# Altium schematic symbol library kmilo17pet-NSC_Interface.SchLib: 1433 symbols (part 27 of 51)
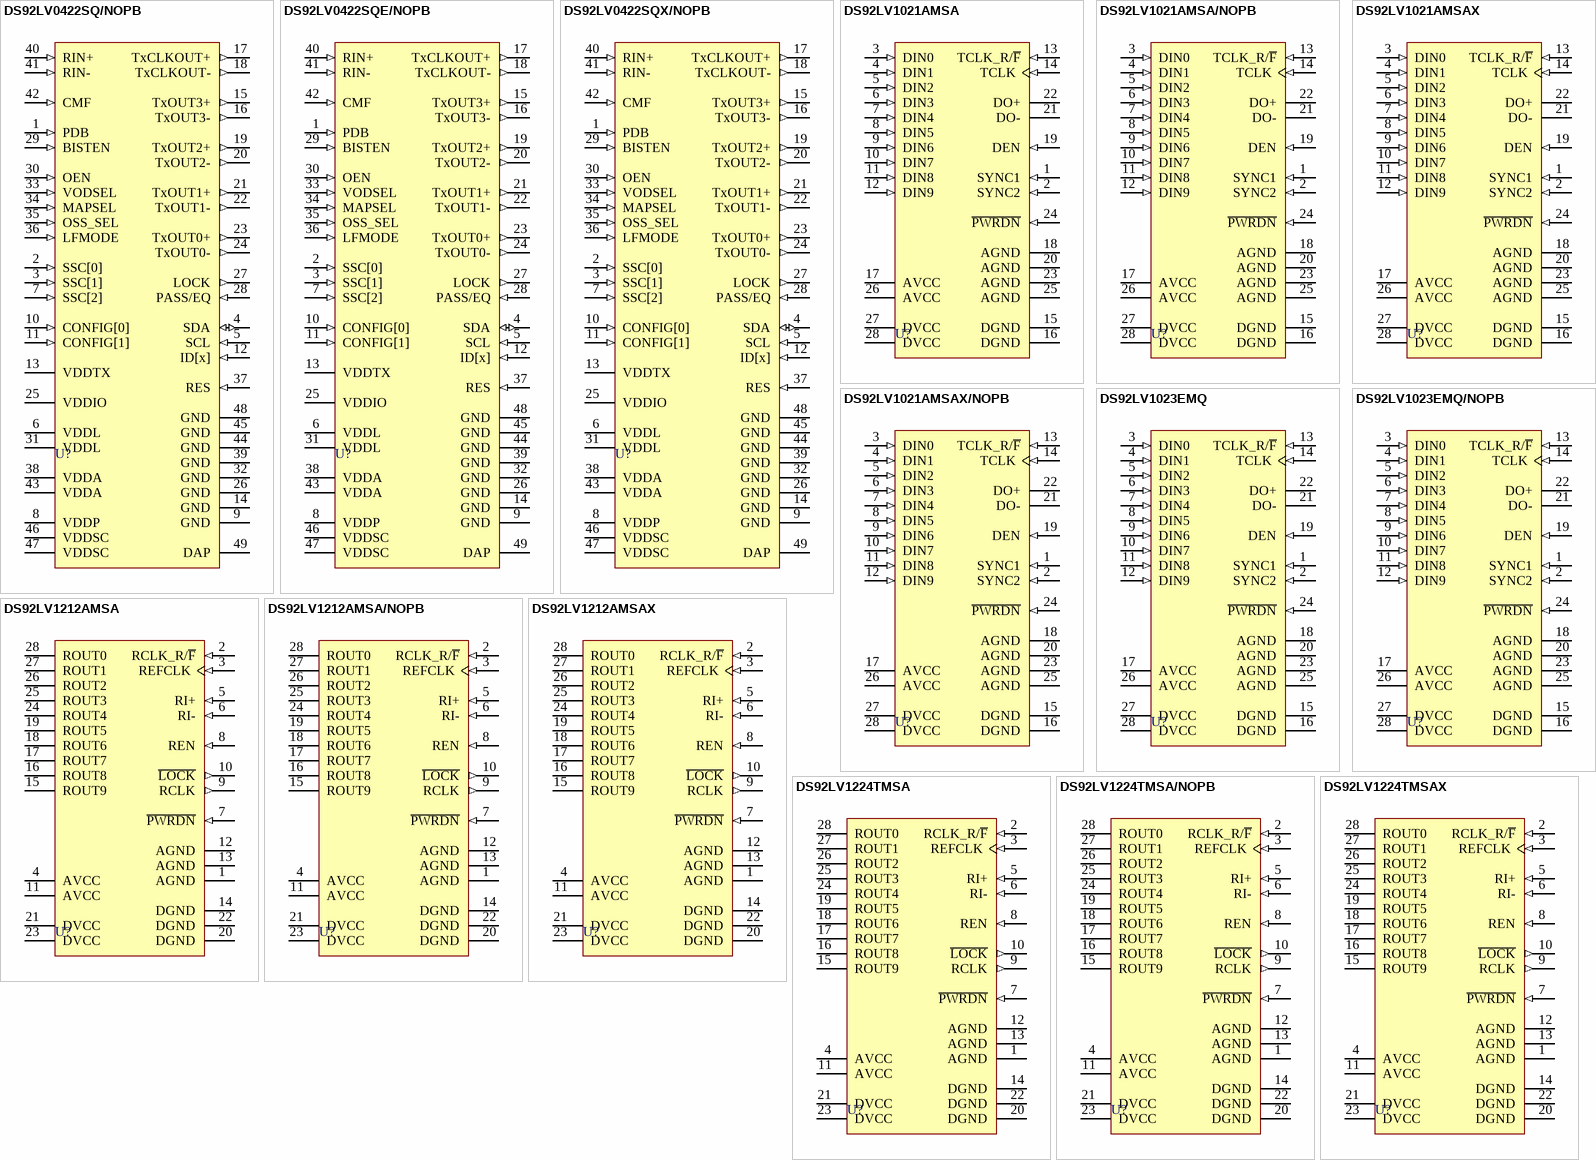
[diagram p150: symbols DS92LV0422SQ/NOPB to DS92LV1224TMSAX]

## DS92LV1021AMSA
designator U?
16 MHz - 40 MHz 10-Bit Serializer, 28-pin SSOP-EIAJ; PartNumber: DS92LV1021AMSA; Manufacturer: National Semiconductor; PackageTopMarking: NSUZXYTTE#*DS92LV1021A*MSA BBBBB; PowerWise: N; CompType: Interface IC; High-Reliability: Y; DatasheetVersion: Jan-2003; PackageVersion: revC, Oct-2009; PackageReference: MSA28; PackageDescription: Molded SSOP, 5.3mm Body Width, 0.65mm Pitch, EIAJ, Type II, 28 Lead; RoHS: N; PinCount: 28; ComponentLink1Description: Manufacturer URL; ComponentLink1URL: http://www.national.com/; ComponentLink2Description: DS92LV1021A Datasheet; ComponentLink2URL: http://www.national.com/ds/DS/DS92LV1021A.pdf; ComponentLink3Description: DS92LV1021A Web Page; ComponentLink3URL: http://www.national.com/pf/DS/DS92LV1021A.html; ComponentLink4Description: MSA28 Package Page; ComponentLink4URL: http://www.national.com/packaging/folders/msa28.html
footprint MSA28_N (SOP, 28-Leads, Body 10.2x5.3mm, Pitch 0.65mm, IPC Medium Density)
footprint MSA28_L (SOP, 28-Leads, Body 10.2x5.3mm, Pitch 0.65mm, IPC High Density)
footprint MSA28_M (SOP, 28-Leads, Body 10.2x5.3mm, Pitch 0.65mm, IPC Low Density)
pins: 1 SYNC1 (in), 2 SYNC2 (in), 3 DIN0 (in), 4 DIN1 (in), 5 DIN2 (in), 6 DIN3 (in), 7 DIN4 (in), 8 DIN5 (in), 9 DIN6 (in), 10 DIN7 (in), 11 DIN8 (in), 12 DIN9 (in), 13 TCLK_R/~{F} (in), 14 TCLK (in), 15 DGND (power), 16 DGND (power), 17 AVCC (power), 18 AGND (power), 19 DEN (in), 20 AGND (power), 21 DO- (hiz), 22 DO+ (hiz), 23 AGND (power), 24 ~{PWRDN} (in), 25 AGND (power), 26 AVCC (power), 27 DVCC (power), 28 DVCC (power)

## DS92LV1021AMSA/NOPB
designator U?
16 MHz - 40 MHz 10-Bit Serializer, 28-pin SSOP-EIAJ, Pb-Free; PartNumber: DS92LV1021AMSA/NOPB; Manufacturer: National Semiconductor; PackageTopMarking: NSUZXYTTE#*DS92LV1021A*MSA BBBBB; PowerWise: N; CompType: Interface IC; High-Reliability: Y; DatasheetVersion: Jan-2003; PackageVersion: revC, Oct-2009; PackageReference: MSA28; PackageDescription: Molded SSOP, 5.3mm Body Width, 0.65mm Pitch, EIAJ, Type II, 28 Lead; RoHS: Y; PinCount: 28; ComponentLink1Description: Manufacturer URL; ComponentLink1URL: http://www.national.com/; ComponentLink2Description: DS92LV1021A Datasheet; ComponentLink2URL: http://www.national.com/ds/DS/DS92LV1021A.pdf; ComponentLink3Description: DS92LV1021A Web Page; ComponentLink3URL: http://www.national.com/pf/DS/DS92LV1021A.html; ComponentLink4Description: MSA28 Package Page; ComponentLink4URL: http://www.national.com/packaging/folders/msa28.html
footprint MSA28_N (SOP, 28-Leads, Body 10.2x5.3mm, Pitch 0.65mm, IPC Medium Density)
footprint MSA28_L (SOP, 28-Leads, Body 10.2x5.3mm, Pitch 0.65mm, IPC High Density)
footprint MSA28_M (SOP, 28-Leads, Body 10.2x5.3mm, Pitch 0.65mm, IPC Low Density)
pins: 1 SYNC1 (in), 2 SYNC2 (in), 3 DIN0 (in), 4 DIN1 (in), 5 DIN2 (in), 6 DIN3 (in), 7 DIN4 (in), 8 DIN5 (in), 9 DIN6 (in), 10 DIN7 (in), 11 DIN8 (in), 12 DIN9 (in), 13 TCLK_R/~{F} (in), 14 TCLK (in), 15 DGND (power), 16 DGND (power), 17 AVCC (power), 18 AGND (power), 19 DEN (in), 20 AGND (power), 21 DO- (hiz), 22 DO+ (hiz), 23 AGND (power), 24 ~{PWRDN} (in), 25 AGND (power), 26 AVCC (power), 27 DVCC (power), 28 DVCC (power)

## DS92LV1021AMSAX
designator U?
16 MHz - 40 MHz 10-Bit Serializer, 28-pin SSOP-EIAJ; PartNumber: DS92LV1021AMSAX; Manufacturer: National Semiconductor; PackageTopMarking: NSUZXYTTE#*DS92LV1021A*MSA BBBBB; PowerWise: N; CompType: Interface IC; High-Reliability: Y; DatasheetVersion: Jan-2003; PackageVersion: revC, Oct-2009; PackageReference: MSA28; PackageDescription: Molded SSOP, 5.3mm Body Width, 0.65mm Pitch, EIAJ, Type II, 28 Lead; RoHS: N; PinCount: 28; ComponentLink1Description: Manufacturer URL; ComponentLink1URL: http://www.national.com/; ComponentLink2Description: DS92LV1021A Datasheet; ComponentLink2URL: http://www.national.com/ds/DS/DS92LV1021A.pdf; ComponentLink3Description: DS92LV1021A Web Page; ComponentLink3URL: http://www.national.com/pf/DS/DS92LV1021A.html; ComponentLink4Description: MSA28 Package Page; ComponentLink4URL: http://www.national.com/packaging/folders/msa28.html
footprint MSA28_N (SOP, 28-Leads, Body 10.2x5.3mm, Pitch 0.65mm, IPC Medium Density)
footprint MSA28_L (SOP, 28-Leads, Body 10.2x5.3mm, Pitch 0.65mm, IPC High Density)
footprint MSA28_M (SOP, 28-Leads, Body 10.2x5.3mm, Pitch 0.65mm, IPC Low Density)
pins: 1 SYNC1 (in), 2 SYNC2 (in), 3 DIN0 (in), 4 DIN1 (in), 5 DIN2 (in), 6 DIN3 (in), 7 DIN4 (in), 8 DIN5 (in), 9 DIN6 (in), 10 DIN7 (in), 11 DIN8 (in), 12 DIN9 (in), 13 TCLK_R/~{F} (in), 14 TCLK (in), 15 DGND (power), 16 DGND (power), 17 AVCC (power), 18 AGND (power), 19 DEN (in), 20 AGND (power), 21 DO- (hiz), 22 DO+ (hiz), 23 AGND (power), 24 ~{PWRDN} (in), 25 AGND (power), 26 AVCC (power), 27 DVCC (power), 28 DVCC (power)

## DS92LV1021AMSAX/NOPB
designator U?
16 MHz - 40 MHz 10-Bit Serializer, 28-pin SSOP-EIAJ, Pb-Free; PartNumber: DS92LV1021AMSAX/NOPB; Manufacturer: National Semiconductor; PackageTopMarking: NSUZXYTTE#*DS92LV1021A*MSA BBBBB; PowerWise: N; CompType: Interface IC; High-Reliability: Y; DatasheetVersion: Jan-2003; PackageVersion: revC, Oct-2009; PackageReference: MSA28; PackageDescription: Molded SSOP, 5.3mm Body Width, 0.65mm Pitch, EIAJ, Type II, 28 Lead; RoHS: Y; PinCount: 28; ComponentLink1Description: Manufacturer URL; ComponentLink1URL: http://www.national.com/; ComponentLink2Description: DS92LV1021A Datasheet; ComponentLink2URL: http://www.national.com/ds/DS/DS92LV1021A.pdf; ComponentLink3Description: DS92LV1021A Web Page; ComponentLink3URL: http://www.national.com/pf/DS/DS92LV1021A.html; ComponentLink4Description: MSA28 Package Page; ComponentLink4URL: http://www.national.com/packaging/folders/msa28.html
footprint MSA28_N (SOP, 28-Leads, Body 10.2x5.3mm, Pitch 0.65mm, IPC Medium Density)
footprint MSA28_L (SOP, 28-Leads, Body 10.2x5.3mm, Pitch 0.65mm, IPC High Density)
footprint MSA28_M (SOP, 28-Leads, Body 10.2x5.3mm, Pitch 0.65mm, IPC Low Density)
pins: 1 SYNC1 (in), 2 SYNC2 (in), 3 DIN0 (in), 4 DIN1 (in), 5 DIN2 (in), 6 DIN3 (in), 7 DIN4 (in), 8 DIN5 (in), 9 DIN6 (in), 10 DIN7 (in), 11 DIN8 (in), 12 DIN9 (in), 13 TCLK_R/~{F} (in), 14 TCLK (in), 15 DGND (power), 16 DGND (power), 17 AVCC (power), 18 AGND (power), 19 DEN (in), 20 AGND (power), 21 DO- (hiz), 22 DO+ (hiz), 23 AGND (power), 24 ~{PWRDN} (in), 25 AGND (power), 26 AVCC (power), 27 DVCC (power), 28 DVCC (power)

## DS92LV1023EMQ
designator U?
30-66 MHz 10-Bit Serializer, 28-pin SSOP-EIAJ; PartNumber: DS92LV1023EMQ; Manufacturer: National Semiconductor; PackageTopMarking: NSUZXYTTE#*DS92LV1023*EMQ; PowerWise: N; CompType: Interface IC; High-Reliability: Y; DatasheetVersion: Apr-2005; PackageVersion: revC, Oct-2009; PackageReference: MSA28; PackageDescription: Molded SSOP, 5.3mm Body Width, 0.65mm Pitch, EIAJ, Type II, 28 Lead; RoHS: N; PinCount: 28; ComponentLink1Description: Manufacturer URL; ComponentLink1URL: http://www.national.com/; ComponentLink2Description: DS92LV1023E Datasheet; ComponentLink2URL: http://www.national.com/ds/DS/DS92LV1023E.pdf; ComponentLink3Description: DS92LV1023E Web Page; ComponentLink3URL: http://www.national.com/pf/DS/DS92LV1023E.html; ComponentLink4Description: MSA28 Package Page; ComponentLink4URL: http://www.national.com/packaging/folders/msa28.html
footprint MSA28_N (SOP, 28-Leads, Body 10.2x5.3mm, Pitch 0.65mm, IPC Medium Density)
footprint MSA28_L (SOP, 28-Leads, Body 10.2x5.3mm, Pitch 0.65mm, IPC High Density)
footprint MSA28_M (SOP, 28-Leads, Body 10.2x5.3mm, Pitch 0.65mm, IPC Low Density)
pins: 1 SYNC1 (in), 2 SYNC2 (in), 3 DIN0 (in), 4 DIN1 (in), 5 DIN2 (in), 6 DIN3 (in), 7 DIN4 (in), 8 DIN5 (in), 9 DIN6 (in), 10 DIN7 (in), 11 DIN8 (in), 12 DIN9 (in), 13 TCLK_R/~{F} (in), 14 TCLK (in), 15 DGND (power), 16 DGND (power), 17 AVCC (power), 18 AGND (power), 19 DEN (in), 20 AGND (power), 21 DO- (hiz), 22 DO+ (hiz), 23 AGND (power), 24 ~{PWRDN} (in), 25 AGND (power), 26 AVCC (power), 27 DVCC (power), 28 DVCC (power)

## DS92LV1023EMQ/NOPB
designator U?
30-66 MHz 10-Bit Serializer, 28-pin SSOP-EIAJ, Pb-Free; PartNumber: DS92LV1023EMQ/NOPB; Manufacturer: National Semiconductor; PackageTopMarking: NSUZXYTTE#*DS92LV1023*EMQ; PowerWise: N; CompType: Interface IC; High-Reliability: Y; DatasheetVersion: Apr-2005; PackageVersion: revC, Oct-2009; PackageReference: MSA28; PackageDescription: Molded SSOP, 5.3mm Body Width, 0.65mm Pitch, EIAJ, Type II, 28 Lead; RoHS: Y; PinCount: 28; ComponentLink1Description: Manufacturer URL; ComponentLink1URL: http://www.national.com/; ComponentLink2Description: DS92LV1023E Datasheet; ComponentLink2URL: http://www.national.com/ds/DS/DS92LV1023E.pdf; ComponentLink3Description: DS92LV1023E Web Page; ComponentLink3URL: http://www.national.com/pf/DS/DS92LV1023E.html; ComponentLink4Description: MSA28 Package Page; ComponentLink4URL: http://www.national.com/packaging/folders/msa28.html
footprint MSA28_N (SOP, 28-Leads, Body 10.2x5.3mm, Pitch 0.65mm, IPC Medium Density)
footprint MSA28_L (SOP, 28-Leads, Body 10.2x5.3mm, Pitch 0.65mm, IPC High Density)
footprint MSA28_M (SOP, 28-Leads, Body 10.2x5.3mm, Pitch 0.65mm, IPC Low Density)
pins: 1 SYNC1 (in), 2 SYNC2 (in), 3 DIN0 (in), 4 DIN1 (in), 5 DIN2 (in), 6 DIN3 (in), 7 DIN4 (in), 8 DIN5 (in), 9 DIN6 (in), 10 DIN7 (in), 11 DIN8 (in), 12 DIN9 (in), 13 TCLK_R/~{F} (in), 14 TCLK (in), 15 DGND (power), 16 DGND (power), 17 AVCC (power), 18 AGND (power), 19 DEN (in), 20 AGND (power), 21 DO- (hiz), 22 DO+ (hiz), 23 AGND (power), 24 ~{PWRDN} (in), 25 AGND (power), 26 AVCC (power), 27 DVCC (power), 28 DVCC (power)

## DS92LV1212AMSA
designator U?
16 MHz - 40 MHz 10-Bit Bus LVDS Random Lock Deserializer with Embedded Clock Recovery, 28-pin SSOP-EIAJ; PartNumber: DS92LV1212AMSA; Manufacturer: National Semiconductor; PackageTopMarking: NSUZXYTTE#*DS92LV1212A*MSA; PowerWise: N; CompType: Interface IC; High-Reliability: Y; DatasheetVersion: Nov-2000; PackageVersion: revC, Oct-2009; PackageReference: MSA28; PackageDescription: Molded SSOP, 5.3mm Body Width, 0.65mm Pitch, EIAJ, Type II, 28 Lead; RoHS: N; PinCount: 28; ComponentLink1Description: Manufacturer URL; ComponentLink1URL: http://www.national.com/; ComponentLink2Description: DS92LV1212A Datasheet; ComponentLink2URL: http://www.national.com/ds/DS/DS92LV1212A.pdf; ComponentLink3Description: DS92LV1212A Web Page; ComponentLink3URL: http://www.national.com/pf/DS/DS92LV1212A.html; ComponentLink4Description: MSA28 Package Page; ComponentLink4URL: http://www.national.com/packaging/folders/msa28.html
footprint MSA28_N (SOP, 28-Leads, Body 10.2x5.3mm, Pitch 0.65mm, IPC Medium Density)
footprint MSA28_L (SOP, 28-Leads, Body 10.2x5.3mm, Pitch 0.65mm, IPC High Density)
footprint MSA28_M (SOP, 28-Leads, Body 10.2x5.3mm, Pitch 0.65mm, IPC Low Density)
pins: 1 AGND (power), 2 RCLK_R/~{F} (in), 3 REFCLK (in), 4 AVCC (power), 5 RI+ (in), 6 RI- (in), 7 ~{PWRDN} (in), 8 REN (in), 9 RCLK (out), 10 ~{LOCK} (out), 11 AVCC (power), 12 AGND (power), 13 AGND (power), 14 DGND (power), 15 ROUT9 (hiz), 16 ROUT8 (hiz), 17 ROUT7 (hiz), 18 ROUT6 (hiz), 19 ROUT5 (hiz), 20 DGND (power), 21 DVCC (power), 22 DGND (power), 23 DVCC (power), 24 ROUT4 (hiz), 25 ROUT3 (hiz), 26 ROUT2 (hiz), 27 ROUT1 (hiz), 28 ROUT0 (hiz)

## DS92LV1212AMSA/NOPB
designator U?
16 MHz - 40 MHz 10-Bit Bus LVDS Random Lock Deserializer with Embedded Clock Recovery, 28-pin SSOP-EIAJ, Pb-Free; PartNumber: DS92LV1212AMSA/NOPB; Manufacturer: National Semiconductor; PackageTopMarking: NSUZXYTTE#*DS92LV1212A*MSA; PowerWise: N; CompType: Interface IC; High-Reliability: Y; DatasheetVersion: Nov-2000; PackageVersion: revC, Oct-2009; PackageReference: MSA28; PackageDescription: Molded SSOP, 5.3mm Body Width, 0.65mm Pitch, EIAJ, Type II, 28 Lead; RoHS: Y; PinCount: 28; ComponentLink1Description: Manufacturer URL; ComponentLink1URL: http://www.national.com/; ComponentLink2Description: DS92LV1212A Datasheet; ComponentLink2URL: http://www.national.com/ds/DS/DS92LV1212A.pdf; ComponentLink3Description: DS92LV1212A Web Page; ComponentLink3URL: http://www.national.com/pf/DS/DS92LV1212A.html; ComponentLink4Description: MSA28 Package Page; ComponentLink4URL: http://www.national.com/packaging/folders/msa28.html
footprint MSA28_N (SOP, 28-Leads, Body 10.2x5.3mm, Pitch 0.65mm, IPC Medium Density)
footprint MSA28_L (SOP, 28-Leads, Body 10.2x5.3mm, Pitch 0.65mm, IPC High Density)
footprint MSA28_M (SOP, 28-Leads, Body 10.2x5.3mm, Pitch 0.65mm, IPC Low Density)
pins: 1 AGND (power), 2 RCLK_R/~{F} (in), 3 REFCLK (in), 4 AVCC (power), 5 RI+ (in), 6 RI- (in), 7 ~{PWRDN} (in), 8 REN (in), 9 RCLK (out), 10 ~{LOCK} (out), 11 AVCC (power), 12 AGND (power), 13 AGND (power), 14 DGND (power), 15 ROUT9 (hiz), 16 ROUT8 (hiz), 17 ROUT7 (hiz), 18 ROUT6 (hiz), 19 ROUT5 (hiz), 20 DGND (power), 21 DVCC (power), 22 DGND (power), 23 DVCC (power), 24 ROUT4 (hiz), 25 ROUT3 (hiz), 26 ROUT2 (hiz), 27 ROUT1 (hiz), 28 ROUT0 (hiz)

## DS92LV1212AMSAX
designator U?
16 MHz - 40 MHz 10-Bit Bus LVDS Random Lock Deserializer with Embedded Clock Recovery, 28-pin SSOP-EIAJ; PartNumber: DS92LV1212AMSAX; Manufacturer: National Semiconductor; PackageTopMarking: NSUZXYTTE#*DS92LV1212A*MSA; PowerWise: N; CompType: Interface IC; High-Reliability: Y; DatasheetVersion: Nov-2000; PackageVersion: revC, Oct-2009; PackageReference: MSA28; PackageDescription: Molded SSOP, 5.3mm Body Width, 0.65mm Pitch, EIAJ, Type II, 28 Lead; RoHS: N; PinCount: 28; ComponentLink1Description: Manufacturer URL; ComponentLink1URL: http://www.national.com/; ComponentLink2Description: DS92LV1212A Datasheet; ComponentLink2URL: http://www.national.com/ds/DS/DS92LV1212A.pdf; ComponentLink3Description: DS92LV1212A Web Page; ComponentLink3URL: http://www.national.com/pf/DS/DS92LV1212A.html; ComponentLink4Description: MSA28 Package Page; ComponentLink4URL: http://www.national.com/packaging/folders/msa28.html
footprint MSA28_N (SOP, 28-Leads, Body 10.2x5.3mm, Pitch 0.65mm, IPC Medium Density)
footprint MSA28_L (SOP, 28-Leads, Body 10.2x5.3mm, Pitch 0.65mm, IPC High Density)
footprint MSA28_M (SOP, 28-Leads, Body 10.2x5.3mm, Pitch 0.65mm, IPC Low Density)
pins: 1 AGND (power), 2 RCLK_R/~{F} (in), 3 REFCLK (in), 4 AVCC (power), 5 RI+ (in), 6 RI- (in), 7 ~{PWRDN} (in), 8 REN (in), 9 RCLK (out), 10 ~{LOCK} (out), 11 AVCC (power), 12 AGND (power), 13 AGND (power), 14 DGND (power), 15 ROUT9 (hiz), 16 ROUT8 (hiz), 17 ROUT7 (hiz), 18 ROUT6 (hiz), 19 ROUT5 (hiz), 20 DGND (power), 21 DVCC (power), 22 DGND (power), 23 DVCC (power), 24 ROUT4 (hiz), 25 ROUT3 (hiz), 26 ROUT2 (hiz), 27 ROUT1 (hiz), 28 ROUT0 (hiz)

## DS92LV1224TMSA
designator U?
30-66 MHz 10-Bit Deserializer, 28-pin SSOP-EIAJ; PartNumber: DS92LV1224TMSA; Manufacturer: National Semiconductor; PackageTopMarking: NSUZXYTTE#*DS92LV1224T*MSA; PowerWise: N; CompType: Interface IC; High-Reliability: Y; DatasheetVersion: Apr-2005; PackageVersion: revC, Oct-2009; PackageReference: MSA28; PackageDescription: Molded SSOP, 5.3mm Body Width, 0.65mm Pitch, EIAJ, Type II, 28 Lead; RoHS: N; PinCount: 28; ComponentLink1Description: Manufacturer URL; ComponentLink1URL: http://www.national.com/; ComponentLink2Description: DS92LV1224 Datasheet; ComponentLink2URL: http://www.national.com/ds/DS/DS92LV1224.pdf; ComponentLink3Description: DS92LV1224 Web Page; ComponentLink3URL: http://www.national.com/pf/DS/DS92LV1224.html; ComponentLink4Description: MSA28 Package Page; ComponentLink4URL: http://www.national.com/packaging/folders/msa28.html
footprint MSA28_N (SOP, 28-Leads, Body 10.2x5.3mm, Pitch 0.65mm, IPC Medium Density)
footprint MSA28_L (SOP, 28-Leads, Body 10.2x5.3mm, Pitch 0.65mm, IPC High Density)
footprint MSA28_M (SOP, 28-Leads, Body 10.2x5.3mm, Pitch 0.65mm, IPC Low Density)
pins: 1 AGND (power), 2 RCLK_R/~{F} (in), 3 REFCLK (in), 4 AVCC (power), 5 RI+ (in), 6 RI- (in), 7 ~{PWRDN} (in), 8 REN (in), 9 RCLK (out), 10 ~{LOCK} (out), 11 AVCC (power), 12 AGND (power), 13 AGND (power), 14 DGND (power), 15 ROUT9 (hiz), 16 ROUT8 (hiz), 17 ROUT7 (hiz), 18 ROUT6 (hiz), 19 ROUT5 (hiz), 20 DGND (power), 21 DVCC (power), 22 DGND (power), 23 DVCC (power), 24 ROUT4 (hiz), 25 ROUT3 (hiz), 26 ROUT2 (hiz), 27 ROUT1 (hiz), 28 ROUT0 (hiz)

## DS92LV1224TMSA/NOPB
designator U?
30-66 MHz 10-Bit Deserializer, 28-pin SSOP-EIAJ, Pb-Free; PartNumber: DS92LV1224TMSA/NOPB; Manufacturer: National Semiconductor; PackageTopMarking: NSUZXYTTE#*DS92LV1224T*MSA; PowerWise: N; CompType: Interface IC; High-Reliability: Y; DatasheetVersion: Apr-2005; PackageVersion: revC, Oct-2009; PackageReference: MSA28; PackageDescription: Molded SSOP, 5.3mm Body Width, 0.65mm Pitch, EIAJ, Type II, 28 Lead; RoHS: Y; PinCount: 28; ComponentLink1Description: Manufacturer URL; ComponentLink1URL: http://www.national.com/; ComponentLink2Description: DS92LV1224 Datasheet; ComponentLink2URL: http://www.national.com/ds/DS/DS92LV1224.pdf; ComponentLink3Description: DS92LV1224 Web Page; ComponentLink3URL: http://www.national.com/pf/DS/DS92LV1224.html; ComponentLink4Description: MSA28 Package Page; ComponentLink4URL: http://www.national.com/packaging/folders/msa28.html
footprint MSA28_N (SOP, 28-Leads, Body 10.2x5.3mm, Pitch 0.65mm, IPC Medium Density)
footprint MSA28_L (SOP, 28-Leads, Body 10.2x5.3mm, Pitch 0.65mm, IPC High Density)
footprint MSA28_M (SOP, 28-Leads, Body 10.2x5.3mm, Pitch 0.65mm, IPC Low Density)
pins: 1 AGND (power), 2 RCLK_R/~{F} (in), 3 REFCLK (in), 4 AVCC (power), 5 RI+ (in), 6 RI- (in), 7 ~{PWRDN} (in), 8 REN (in), 9 RCLK (out), 10 ~{LOCK} (out), 11 AVCC (power), 12 AGND (power), 13 AGND (power), 14 DGND (power), 15 ROUT9 (hiz), 16 ROUT8 (hiz), 17 ROUT7 (hiz), 18 ROUT6 (hiz), 19 ROUT5 (hiz), 20 DGND (power), 21 DVCC (power), 22 DGND (power), 23 DVCC (power), 24 ROUT4 (hiz), 25 ROUT3 (hiz), 26 ROUT2 (hiz), 27 ROUT1 (hiz), 28 ROUT0 (hiz)

## DS92LV1224TMSAX
designator U?
30-66 MHz 10-Bit Deserializer, 28-pin SSOP-EIAJ; PartNumber: DS92LV1224TMSAX; Manufacturer: National Semiconductor; PackageTopMarking: NSUZXYTTE#*DS92LV1224T*MSA; PowerWise: N; CompType: Interface IC; High-Reliability: Y; DatasheetVersion: Apr-2005; PackageVersion: revC, Oct-2009; PackageReference: MSA28; PackageDescription: Molded SSOP, 5.3mm Body Width, 0.65mm Pitch, EIAJ, Type II, 28 Lead; RoHS: N; PinCount: 28; ComponentLink1Description: Manufacturer URL; ComponentLink1URL: http://www.national.com/; ComponentLink2Description: DS92LV1224 Datasheet; ComponentLink2URL: http://www.national.com/ds/DS/DS92LV1224.pdf; ComponentLink3Description: DS92LV1224 Web Page; ComponentLink3URL: http://www.national.com/pf/DS/DS92LV1224.html; ComponentLink4Description: MSA28 Package Page; ComponentLink4URL: http://www.national.com/packaging/folders/msa28.html
footprint MSA28_N (SOP, 28-Leads, Body 10.2x5.3mm, Pitch 0.65mm, IPC Medium Density)
footprint MSA28_L (SOP, 28-Leads, Body 10.2x5.3mm, Pitch 0.65mm, IPC High Density)
footprint MSA28_M (SOP, 28-Leads, Body 10.2x5.3mm, Pitch 0.65mm, IPC Low Density)
pins: 1 AGND (power), 2 RCLK_R/~{F} (in), 3 REFCLK (in), 4 AVCC (power), 5 RI+ (in), 6 RI- (in), 7 ~{PWRDN} (in), 8 REN (in), 9 RCLK (out), 10 ~{LOCK} (out), 11 AVCC (power), 12 AGND (power), 13 AGND (power), 14 DGND (power), 15 ROUT9 (hiz), 16 ROUT8 (hiz), 17 ROUT7 (hiz), 18 ROUT6 (hiz), 19 ROUT5 (hiz), 20 DGND (power), 21 DVCC (power), 22 DGND (power), 23 DVCC (power), 24 ROUT4 (hiz), 25 ROUT3 (hiz), 26 ROUT2 (hiz), 27 ROUT1 (hiz), 28 ROUT0 (hiz)

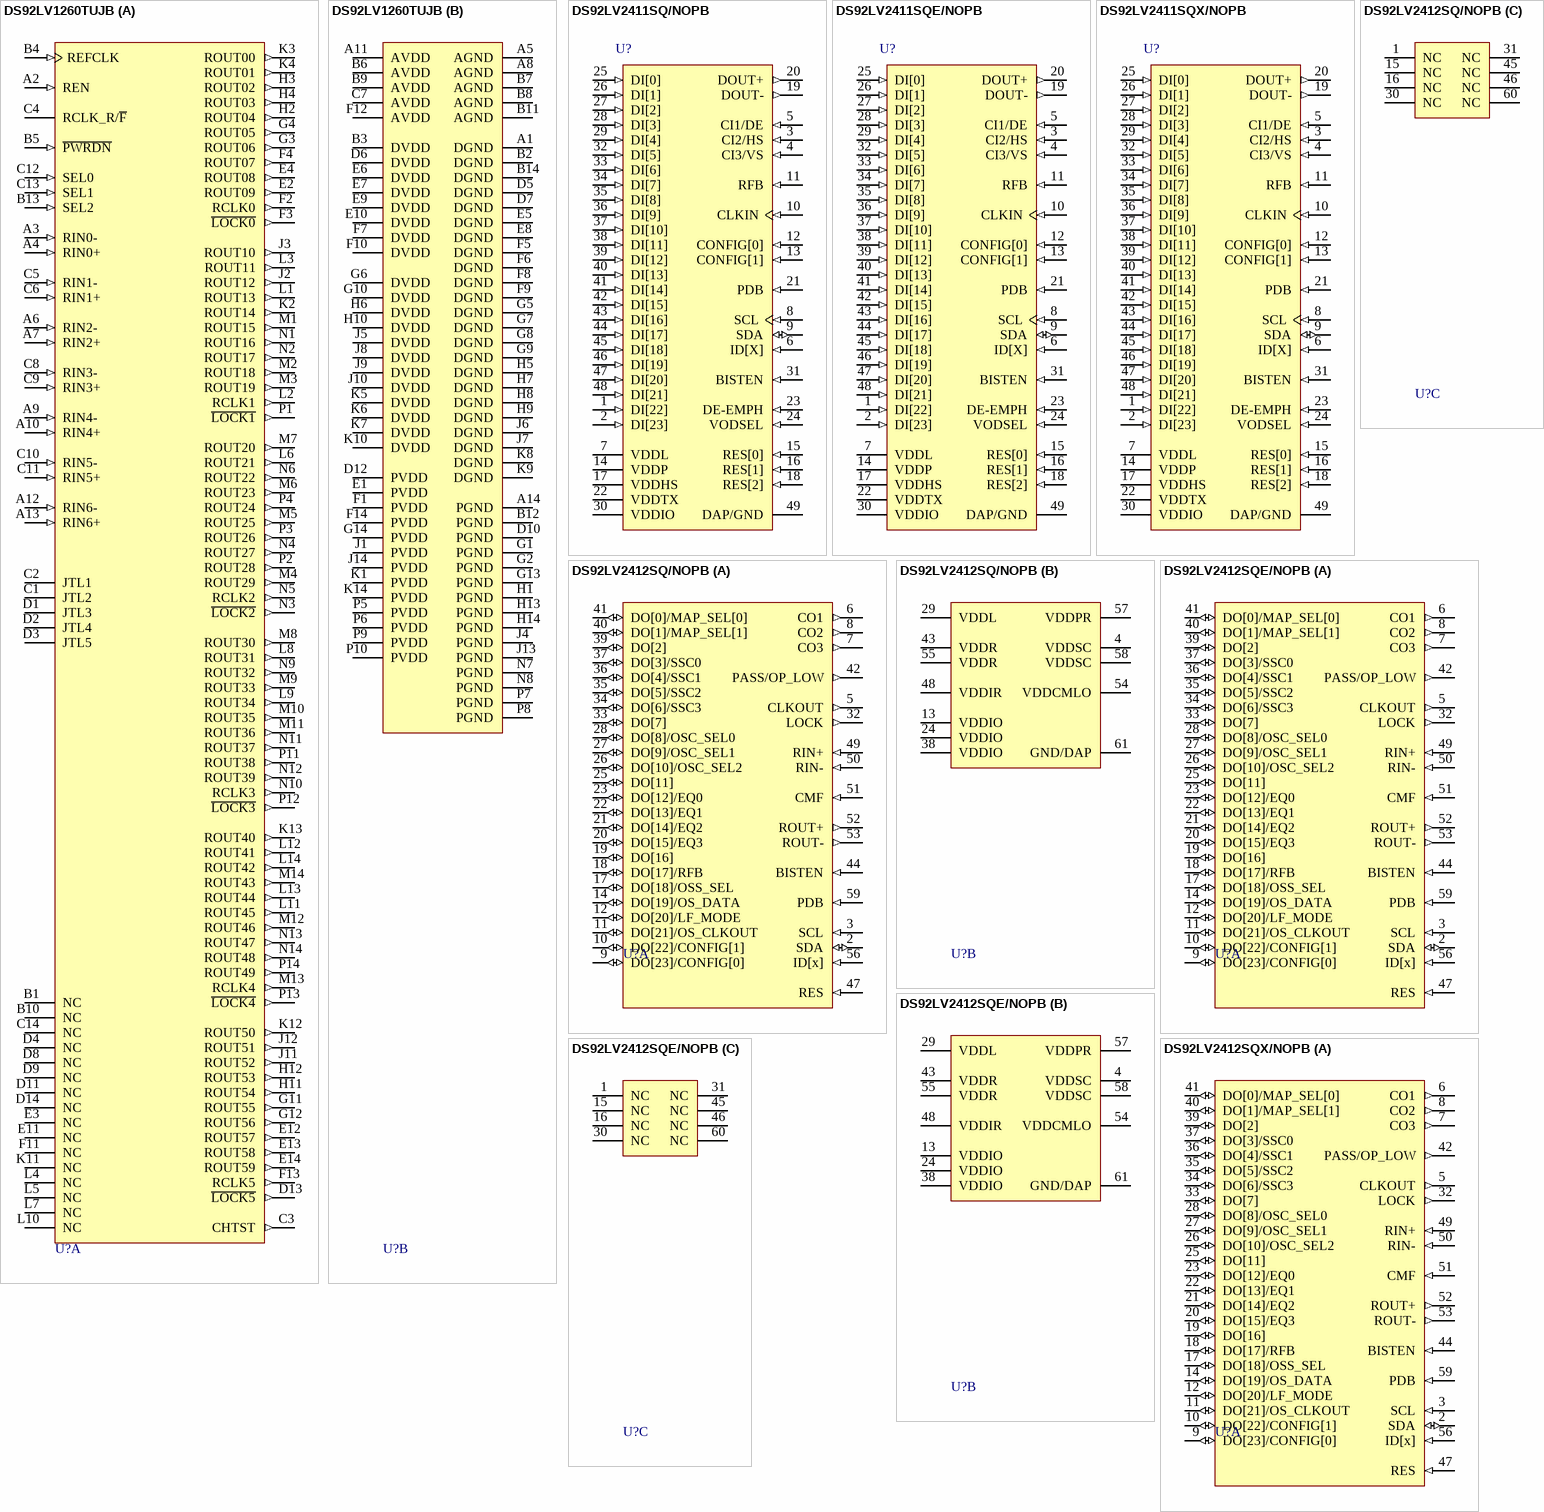
[diagram p71: symbols DS92LV1260TUJB to DS92LV2412SQX/NOPB]

## DS92LV1260TUJB
designator U?
Six 1 to 10 deserializers, 196-pin LBGA; PartNumber: DS92LV1260TUJB; Manufacturer: National Semiconductor; PackageTopMarking: NSUZXYYTTE#*DS92LV1260T*UJB*BBBBB; PowerWise: N; CompType: Interface IC; High-Reliability: Y; DatasheetVersion: Aug-2003; PackageVersion: revC, Jul-2005; PackageReference: UJB196A; PackageDescription: LBGA, 15 x 15 x 1.37mm, 196 Ball, 1.0mm Pitch; RoHS: N; PinCount: 196; Code_JEDEC: MO-192-AAE-1; ComponentLink1Description: Manufacturer URL; ComponentLink1URL: http://www.national.com/; ComponentLink2Description: DS92LV1260 Datasheet; ComponentLink2URL: http://www.national.com/ds/DS/DS92LV1260.pdf; ComponentLink3Description: DS92LV1260 Web Page; ComponentLink3URL: http://www.national.com/pf/DS/DS92LV1260.html; ComponentLink4Description: UJB196A Package Page; ComponentLink4URL: http://www.national.com/packaging/folders/ujb196a.html
footprint UJB196A (BGA, 196-Leads, Body 15x15mm, Pitch 1mm)
part A pins: A2 REN (in), A3 RIN0- (in), A4 RIN0+ (in), A6 RIN2- (in), A7 RIN2+ (in), A9 RIN4- (in), A10 RIN4+ (in), A12 RIN6- (in), A13 RIN6+ (in), B1 NC, B4 REFCLK (in), B5 ~{PWRDN} (in), B10 NC, B13 SEL2 (in), C1 JTL2, C2 JTL1, C3 CHTST (out), C4 RCLK_R/~{F} (power), C5 RIN1- (in), C6 RIN1+ (in), C8 RIN3- (in), C9 RIN3+ (in), C10 RIN5- (in), C11 RIN5+ (in), C12 SEL0 (in), C13 SEL1 (in), C14 NC, D1 JTL3, D2 JTL4, D3 JTL5, D4 NC, D8 NC, D9 NC, D11 NC, D13 ~{LOCK5} (out), D14 NC, E2 ROUT09 (out), E3 NC, E4 ROUT08 (out), E11 NC, E12 ROUT57 (out), E13 ROUT58 (out), E14 ROUT59 (out), F2 RCLK0 (out), F3 ~{LOCK0} (out), F4 ROUT07 (out), F11 NC, F13 RCLK5 (out), G3 ROUT06 (out), G4 ROUT05 (out), G11 ROUT55 (out), G12 ROUT56 (out), H2 ROUT04 (out), H3 ROUT02 (out), H4 ROUT03 (out), H11 ROUT54 (out), H12 ROUT53 (out), J2 ROUT12 (out), J3 ROUT10 (out), J11 ROUT52 (out), J12 ROUT51 (out), K2 ROUT14 (out), K3 ROUT00 (out), K4 ROUT01 (out), K11 NC, K12 ROUT50 (out), K13 ROUT40 (out), L1 ROUT13 (out), L2 RCLK1 (out), L3 ROUT11 (out), L4 NC, L5 NC, L6 ROUT21 (out), L7 NC, L8 ROUT31 (out), L9 ROUT34 (out), L10 NC, L11 ROUT45 (out), L12 ROUT41 (out), L13 ROUT44 (out), L14 ROUT42 (out), M1 ROUT15 (out), M2 ROUT18 (out), M3 ROUT19 (out), M4 ROUT29 (out), M5 ROUT25 (out), M6 ROUT23 (out), M7 ROUT20 (out), M8 ROUT30 (out), M9 ROUT33 (out), M10 ROUT35 (out), M11 ROUT36 (out), M12 ROUT46 (out), M13 RCLK4 (out), M14 ROUT43 (out), N1 ROUT16 (out), N2 ROUT17 (out), N3 ~{LOCK2} (out), N4 ROUT27 (out), N5 RCLK2 (out), N6 ROUT22 (out), N9 ROUT32 (out), N10 RCLK3 (out), N11 ROUT37 (out), N12 ROUT39 (out), N13 ROUT47 (out), N14 ROUT48 (out), P1 ~{LOCK1} (out), P2 ROUT28 (out), P3 ROUT26 (out), P4 ROUT24 (out), P11 ROUT38 (out), P12 ~{LOCK3} (out), P13 ~{LOCK4} (out), P14 ROUT49 (out)
part B pins: A1 DGND (power), A5 AGND (power), A8 AGND (power), A11 AVDD (power), A14 PGND (power), B2 DGND (power), B3 DVDD (power), B6 AVDD (power), B7 AGND (power), B8 AGND (power), B9 AVDD (power), B11 AGND (power), B12 PGND (power), B14 DGND (power), C7 AVDD (power), D5 DGND (power), D6 DVDD (power), D7 DGND (power), D10 PGND (power), D12 PVDD (power), E1 PVDD (power), E5 DGND (power), E6 DVDD (power), E7 DVDD (power), E8 DGND (power), E9 DVDD (power), E10 DVDD (power), F1 PVDD (power), F5 DGND (power), F6 DGND (power), F7 DVDD (power), F8 DGND (power), F9 DGND (power), F10 DVDD (power), F12 AVDD (power), F14 PVDD (power), G1 PGND (power), G2 PGND (power), G5 DGND (power), G6 DVDD (power), G7 DGND (power), G8 DGND (power), G9 DGND (power), G10 DVDD (power), G13 PGND (power), G14 PVDD (power), H1 PGND (power), H5 DGND (power), H6 DVDD (power), H7 DGND (power), H8 DGND (power), H9 DGND (power), H10 DVDD (power), H13 PGND (power), H14 PGND (power), J1 PVDD (power), J4 PGND (power), J5 DVDD (power), J6 DGND (power), J7 DGND (power), J8 DVDD (power), J9 DVDD (power), J10 DVDD (power), J13 PGND (power), J14 PVDD (power), K1 PVDD (power), K5 DVDD (power), K6 DVDD (power), K7 DVDD (power), K8 DGND (power), K9 DGND (power), K10 DVDD (power), K14 PVDD (power), N7 PGND (power), N8 PGND (power), P5 PVDD (power), P6 PVDD (power), P7 PGND (power), P8 PGND (power), P9 PVDD (power), P10 PVDD (power)

## DS92LV2411SQ/NOPB
designator U?
5-50MHz 24-Bit Channel Link II Serializer, 48 pin LLP; PartNumber: DS92LV2411SQ/NOPB; Manufacturer: National Semiconductor; PackageTopMarking: NS*UZXYTTE#*LV2411SQ; PowerWise: N; CompType: Interface IC; High-Reliability: Y; DatasheetVersion: May-2010; PackageVersion: revB, May-2009; PackageReference: SQA48A; PackageDescription: LLP, Plastic, Quad, 7 x 7 x 0.8mm Body, 48 Lead, 0.5mm Pitch, No Pullback; RoHS: Y; PinCount: 48; Code_JEDEC: MO-220-WKKD-2; ComponentLink1Description: Manufacturer URL; ComponentLink1URL: http://www.national.com/; ComponentLink2Description: DS92LV2411 Datasheet; ComponentLink2URL: http://www.national.com/ds/DS/DS92LV2411.pdf; ComponentLink3Description: DS92LV2411 Web Page; ComponentLink3URL: http://www.national.com/pf/DS/DS92LV2411.html; ComponentLink4Description: SQA48A Package Page; ComponentLink4URL: http://www.national.com/packaging/folders/sqa48a.html
footprint SQA48A (QFN, 48-Leads, Body 7x7mm, Pitch 0.5mm, Thermal Pad 5.2x5.2mm, NSC Recommended)
pins: 1 DI[22] (in), 2 DI[23] (in), 3 CI2/HS (in), 4 CI3/VS (in), 5 CI1/DE (in), 6 ID[X] (in), 7 VDDL (power), 8 SCL (in), 9 SDA (io), 10 CLKIN (in), 11 RFB (in), 12 CONFIG[0] (in), 13 CONFIG[1] (in), 14 VDDP (power), 15 RES[0] (in), 16 RES[1] (in), 17 VDDHS (power), 18 RES[2] (in), 19 DOUT- (out), 20 DOUT+ (out), 21 PDB (in), 22 VDDTX (power), 23 DE-EMPH (in), 24 VODSEL (in), 25 DI[0] (in), 26 DI[1] (in), 27 DI[2] (in), 28 DI[3] (in), 29 DI[4] (in), 30 VDDIO (power), 31 BISTEN (in), 32 DI[5] (in), 33 DI[6] (in), 34 DI[7] (in), 35 DI[8] (in), 36 DI[9] (in), 37 DI[10] (in), 38 DI[11] (in), 39 DI[12] (in), 40 DI[13] (in), 41 DI[14] (in), 42 DI[15] (in), 43 DI[16] (in), 44 DI[17] (in), 45 DI[18] (in), 46 DI[19] (in), 47 DI[20] (in), 48 DI[21] (in), 49 DAP/GND (power)

## DS92LV2411SQE/NOPB
designator U?
5-50MHz 24-Bit Channel Link II Serializer, 48 pin LLP; PartNumber: DS92LV2411SQE/NOPB; Manufacturer: National Semiconductor; PackageTopMarking: NS*UZXYTTE#*LV2411SQ; PowerWise: N; CompType: Interface IC; High-Reliability: Y; DatasheetVersion: May-2010; PackageVersion: revB, May-2009; PackageReference: SQA48A; PackageDescription: LLP, Plastic, Quad, 7 x 7 x 0.8mm Body, 48 Lead, 0.5mm Pitch, No Pullback; RoHS: Y; PinCount: 48; Code_JEDEC: MO-220-WKKD-2; ComponentLink1Description: Manufacturer URL; ComponentLink1URL: http://www.national.com/; ComponentLink2Description: DS92LV2411 Datasheet; ComponentLink2URL: http://www.national.com/ds/DS/DS92LV2411.pdf; ComponentLink3Description: DS92LV2411 Web Page; ComponentLink3URL: http://www.national.com/pf/DS/DS92LV2411.html; ComponentLink4Description: SQA48A Package Page; ComponentLink4URL: http://www.national.com/packaging/folders/sqa48a.html
footprint SQA48A (QFN, 48-Leads, Body 7x7mm, Pitch 0.5mm, Thermal Pad 5.2x5.2mm, NSC Recommended)
pins: 1 DI[22] (in), 2 DI[23] (in), 3 CI2/HS (in), 4 CI3/VS (in), 5 CI1/DE (in), 6 ID[X] (in), 7 VDDL (power), 8 SCL (in), 9 SDA (io), 10 CLKIN (in), 11 RFB (in), 12 CONFIG[0] (in), 13 CONFIG[1] (in), 14 VDDP (power), 15 RES[0] (in), 16 RES[1] (in), 17 VDDHS (power), 18 RES[2] (in), 19 DOUT- (out), 20 DOUT+ (out), 21 PDB (in), 22 VDDTX (power), 23 DE-EMPH (in), 24 VODSEL (in), 25 DI[0] (in), 26 DI[1] (in), 27 DI[2] (in), 28 DI[3] (in), 29 DI[4] (in), 30 VDDIO (power), 31 BISTEN (in), 32 DI[5] (in), 33 DI[6] (in), 34 DI[7] (in), 35 DI[8] (in), 36 DI[9] (in), 37 DI[10] (in), 38 DI[11] (in), 39 DI[12] (in), 40 DI[13] (in), 41 DI[14] (in), 42 DI[15] (in), 43 DI[16] (in), 44 DI[17] (in), 45 DI[18] (in), 46 DI[19] (in), 47 DI[20] (in), 48 DI[21] (in), 49 DAP/GND (power)

## DS92LV2411SQX/NOPB
designator U?
5-50MHz 24-Bit Channel Link II Serializer, 48 pin LLP; PartNumber: DS92LV2411SQX/NOPB; Manufacturer: National Semiconductor; PackageTopMarking: NS*UZXYTTE#*LV2411SQ; PowerWise: N; CompType: Interface IC; High-Reliability: Y; DatasheetVersion: May-2010; PackageVersion: revB, May-2009; PackageReference: SQA48A; PackageDescription: LLP, Plastic, Quad, 7 x 7 x 0.8mm Body, 48 Lead, 0.5mm Pitch, No Pullback; RoHS: Y; PinCount: 48; Code_JEDEC: MO-220-WKKD-2; ComponentLink1Description: Manufacturer URL; ComponentLink1URL: http://www.national.com/; ComponentLink2Description: DS92LV2411 Datasheet; ComponentLink2URL: http://www.national.com/ds/DS/DS92LV2411.pdf; ComponentLink3Description: DS92LV2411 Web Page; ComponentLink3URL: http://www.national.com/pf/DS/DS92LV2411.html; ComponentLink4Description: SQA48A Package Page; ComponentLink4URL: http://www.national.com/packaging/folders/sqa48a.html
footprint SQA48A (QFN, 48-Leads, Body 7x7mm, Pitch 0.5mm, Thermal Pad 5.2x5.2mm, NSC Recommended)
pins: 1 DI[22] (in), 2 DI[23] (in), 3 CI2/HS (in), 4 CI3/VS (in), 5 CI1/DE (in), 6 ID[X] (in), 7 VDDL (power), 8 SCL (in), 9 SDA (io), 10 CLKIN (in), 11 RFB (in), 12 CONFIG[0] (in), 13 CONFIG[1] (in), 14 VDDP (power), 15 RES[0] (in), 16 RES[1] (in), 17 VDDHS (power), 18 RES[2] (in), 19 DOUT- (out), 20 DOUT+ (out), 21 PDB (in), 22 VDDTX (power), 23 DE-EMPH (in), 24 VODSEL (in), 25 DI[0] (in), 26 DI[1] (in), 27 DI[2] (in), 28 DI[3] (in), 29 DI[4] (in), 30 VDDIO (power), 31 BISTEN (in), 32 DI[5] (in), 33 DI[6] (in), 34 DI[7] (in), 35 DI[8] (in), 36 DI[9] (in), 37 DI[10] (in), 38 DI[11] (in), 39 DI[12] (in), 40 DI[13] (in), 41 DI[14] (in), 42 DI[15] (in), 43 DI[16] (in), 44 DI[17] (in), 45 DI[18] (in), 46 DI[19] (in), 47 DI[20] (in), 48 DI[21] (in), 49 DAP/GND (power)

## DS92LV2412SQ/NOPB
designator U?
5-50MHz 24-Bit Channel Link II Deserializer, 60 pin LLP; PartNumber: DS92LV2412SQ/NOPB; Manufacturer: National Semiconductor; PackageTopMarking: NS*UZXYTTE#*LV2412SQ; PowerWise: N; CompType: Interface IC; High-Reliability: Y; DatasheetVersion: May-2010; PackageVersion: revB, Jun-2009; PackageReference: SQA60B; PackageDescription: LLP, Quad, 9 x 9 x 0.8mm Body, 60 Lead, 0.5 mm Pitch, No Pullback, 6.3 x 6.3 mm Exposed Pad; RoHS: Y; PinCount: 60; ComponentLink1Description: Manufacturer URL; ComponentLink1URL: http://www.national.com/; ComponentLink2Description: DS92LV2412 Datasheet; ComponentLink2URL: http://www.national.com/ds/DS/DS92LV2412.pdf; ComponentLink3Description: DS92LV2412 Web Page; ComponentLink3URL: http://www.national.com/pf/DS/DS92LV2412.html; ComponentLink4Description: SQA60B Package Page; ComponentLink4URL: http://www.national.com/packaging/folders/sqa60b.html
footprint SQA60B (QFN, 60-Leads, Body 9x9mm, Pitch 0.5mm, Thermal Pad 6.3x6.3mm, NSC Recommended)
part A pins: 2 SDA (io), 3 SCL (in), 5 CLKOUT (out), 6 CO1 (out), 7 CO3 (out), 8 CO2 (out), 9 DO[23]/CONFIG[0] (io), 10 DO[22]/CONFIG[1] (io), 11 DO[21]/OS_CLKOUT (io), 12 DO[20]/LF_MODE (io), 14 DO[19]/OS_DATA (io), 17 DO[18]/OSS_SEL (io), 18 DO[17]/RFB (io), 19 DO[16] (io), 20 DO[15]/EQ3 (io), 21 DO[14]/EQ2 (io), 22 DO[13]/EQ1 (io), 23 DO[12]/EQ0 (io), 25 DO[11] (io), 26 DO[10]/OSC_SEL2 (io), 27 DO[9]/OSC_SEL1 (io), 28 DO[8]/OSC_SEL0 (io), 32 LOCK (out), 33 DO[7] (io), 34 DO[6]/SSC3 (io), 35 DO[5]/SSC2 (io), 36 DO[4]/SSC1 (io), 37 DO[3]/SSC0 (io), 39 DO[2] (io), 40 DO[1]/MAP_SEL[1] (io), 41 DO[0]/MAP_SEL[0] (io), 42 PASS/OP_LOW (out), 44 BISTEN (in), 47 RES (in), 49 RIN+ (in), 50 RIN- (in), 51 CMF (in), 52 ROUT+ (out), 53 ROUT- (out), 56 ID[x] (in), 59 PDB (in)
part B pins: 4 VDDSC (power), 13 VDDIO (power), 24 VDDIO (power), 29 VDDL (power), 38 VDDIO (power), 43 VDDR (power), 48 VDDIR (power), 54 VDDCMLO (power), 55 VDDR (power), 57 VDDPR (power), 58 VDDSC (power), 61 GND/DAP (power)
part C pins: 1 NC, 15 NC, 16 NC, 30 NC, 31 NC, 45 NC, 46 NC, 60 NC

## DS92LV2412SQE/NOPB
designator U?
5-50MHz 24-Bit Channel Link II Deserializer, 60 pin LLP; PartNumber: DS92LV2412SQE/NOPB; Manufacturer: National Semiconductor; PackageTopMarking: NS*UZXYTTE#*LV2412SQ; PowerWise: N; CompType: Interface IC; High-Reliability: Y; DatasheetVersion: May-2010; PackageVersion: revB, Jun-2009; PackageReference: SQA60B; PackageDescription: LLP, Quad, 9 x 9 x 0.8mm Body, 60 Lead, 0.5 mm Pitch, No Pullback, 6.3 x 6.3 mm Exposed Pad; RoHS: Y; PinCount: 60; ComponentLink1Description: Manufacturer URL; ComponentLink1URL: http://www.national.com/; ComponentLink2Description: DS92LV2412 Datasheet; ComponentLink2URL: http://www.national.com/ds/DS/DS92LV2412.pdf; ComponentLink3Description: DS92LV2412 Web Page; ComponentLink3URL: http://www.national.com/pf/DS/DS92LV2412.html; ComponentLink4Description: SQA60B Package Page; ComponentLink4URL: http://www.national.com/packaging/folders/sqa60b.html
footprint SQA60B (QFN, 60-Leads, Body 9x9mm, Pitch 0.5mm, Thermal Pad 6.3x6.3mm, NSC Recommended)
part A pins: 2 SDA (io), 3 SCL (in), 5 CLKOUT (out), 6 CO1 (out), 7 CO3 (out), 8 CO2 (out), 9 DO[23]/CONFIG[0] (io), 10 DO[22]/CONFIG[1] (io), 11 DO[21]/OS_CLKOUT (io), 12 DO[20]/LF_MODE (io), 14 DO[19]/OS_DATA (io), 17 DO[18]/OSS_SEL (io), 18 DO[17]/RFB (io), 19 DO[16] (io), 20 DO[15]/EQ3 (io), 21 DO[14]/EQ2 (io), 22 DO[13]/EQ1 (io), 23 DO[12]/EQ0 (io), 25 DO[11] (io), 26 DO[10]/OSC_SEL2 (io), 27 DO[9]/OSC_SEL1 (io), 28 DO[8]/OSC_SEL0 (io), 32 LOCK (out), 33 DO[7] (io), 34 DO[6]/SSC3 (io), 35 DO[5]/SSC2 (io), 36 DO[4]/SSC1 (io), 37 DO[3]/SSC0 (io), 39 DO[2] (io), 40 DO[1]/MAP_SEL[1] (io), 41 DO[0]/MAP_SEL[0] (io), 42 PASS/OP_LOW (out), 44 BISTEN (in), 47 RES (in), 49 RIN+ (in), 50 RIN- (in), 51 CMF (in), 52 ROUT+ (out), 53 ROUT- (out), 56 ID[x] (in), 59 PDB (in)
part B pins: 4 VDDSC (power), 13 VDDIO (power), 24 VDDIO (power), 29 VDDL (power), 38 VDDIO (power), 43 VDDR (power), 48 VDDIR (power), 54 VDDCMLO (power), 55 VDDR (power), 57 VDDPR (power), 58 VDDSC (power), 61 GND/DAP (power)
part C pins: 1 NC, 15 NC, 16 NC, 30 NC, 31 NC, 45 NC, 46 NC, 60 NC

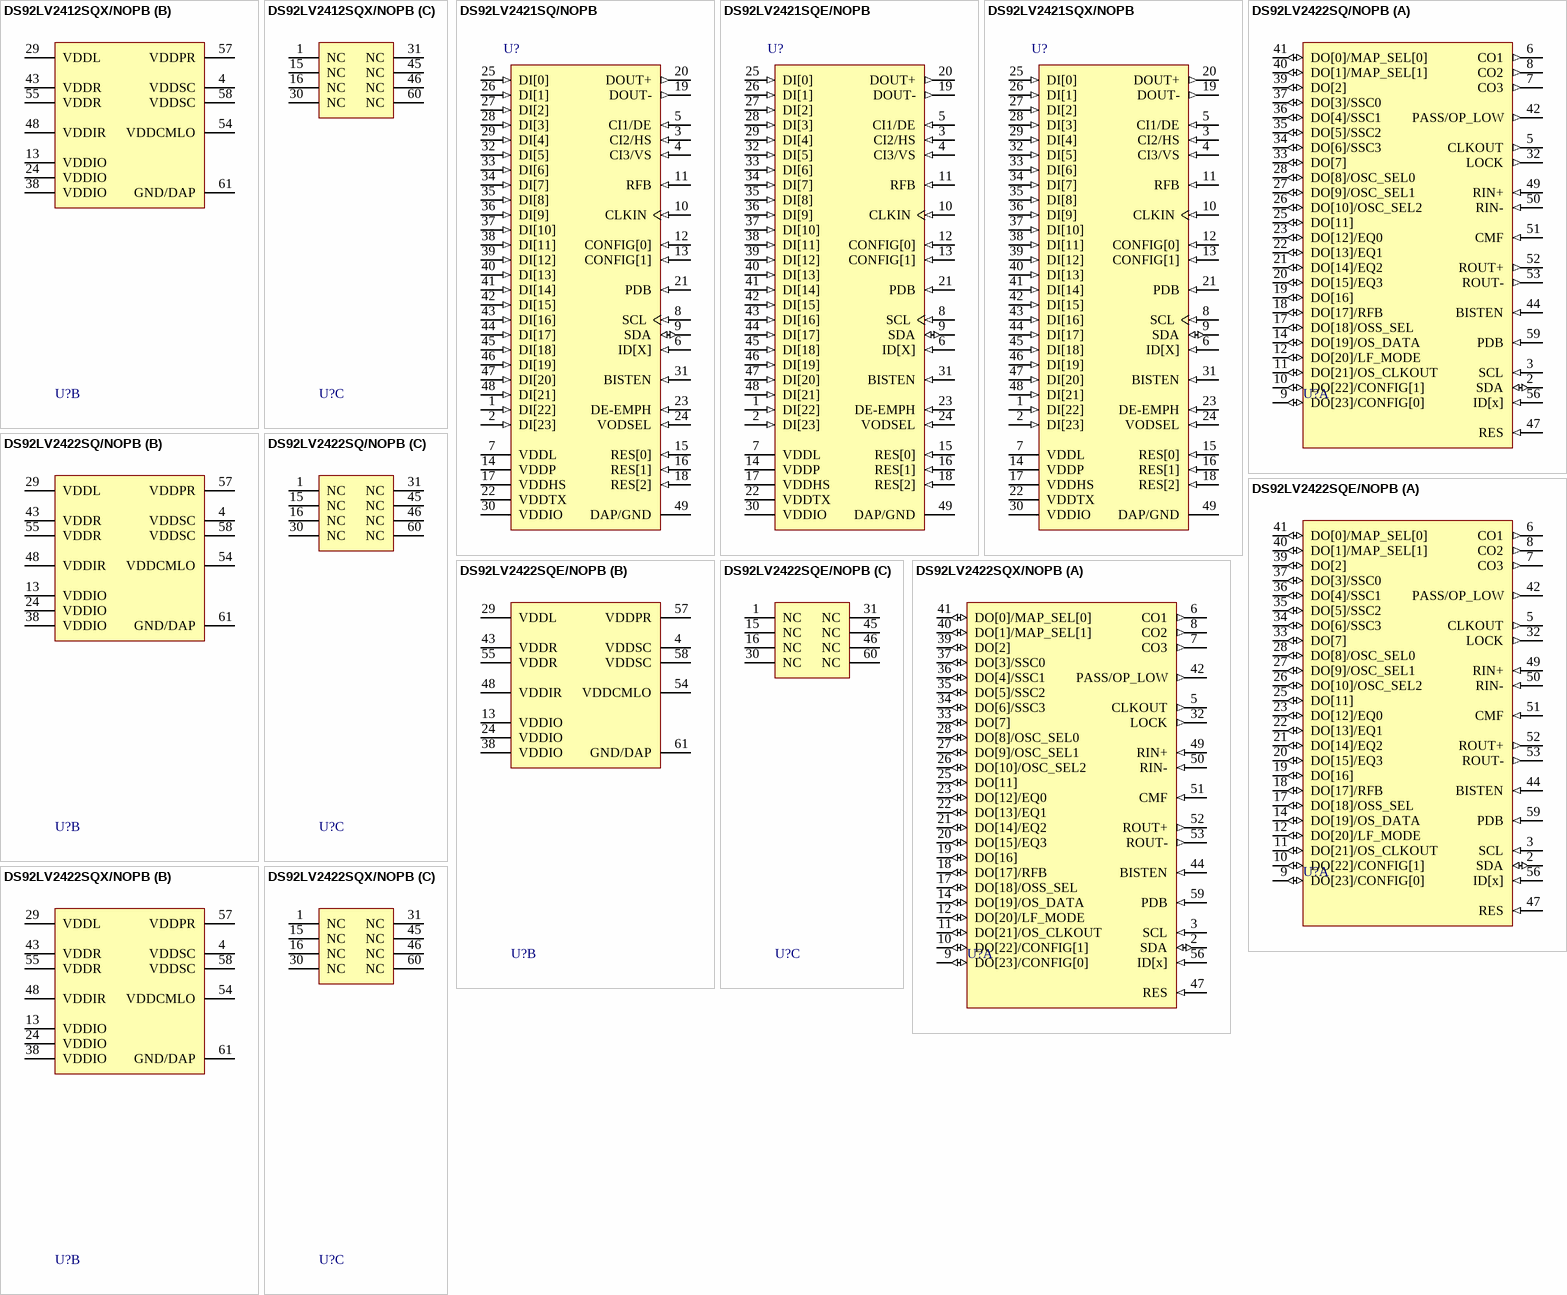
[diagram p72: symbols DS92LV2412SQX/NOPB to DS92LV2422SQX/NOPB]

## DS92LV2412SQX/NOPB
designator U?
5-50MHz 24-Bit Channel Link II Deserializer, 60-pin LLP, 2000 Reel; PartNumber: DS92LV2412SQX/NOPB; Manufacturer: National Semiconductor; PackageTopMarking: NS*UZXYTTE#*LV2412SQ; PowerWise: N; CompType: Interface IC; High-Reliability: Y; DatasheetVersion: May-2010; PackageVersion: revB, Jun-2009; PackageReference: SQA60B; PackageDescription: LLP, Quad, 9 x 9 x 0.8mm Body, 60 Lead, 0.5 mm Pitch, No Pullback, 6.3 x 6.3 mm Exposed Pad; RoHS: Y; PinCount: 60; ComponentLink1Description: Manufacturer URL; ComponentLink1URL: http://www.national.com/; ComponentLink2Description: DS92LV2412 Datasheet; ComponentLink2URL: http://www.national.com/ds/DS/DS92LV2412.pdf; ComponentLink3Description: DS92LV2412 Web Page; ComponentLink3URL: http://www.national.com/pf/DS/DS92LV2412.html; ComponentLink4Description: SQA60B Package Page; ComponentLink4URL: http://www.national.com/packaging/folders/sqa60b.html
footprint SQA60B (QFN, 60-Leads, Body 9x9mm, Pitch 0.5mm, Thermal Pad 6.3x6.3mm, NSC Recommended)
part A pins: 2 SDA (io), 3 SCL (in), 5 CLKOUT (out), 6 CO1 (out), 7 CO3 (out), 8 CO2 (out), 9 DO[23]/CONFIG[0] (io), 10 DO[22]/CONFIG[1] (io), 11 DO[21]/OS_CLKOUT (io), 12 DO[20]/LF_MODE (io), 14 DO[19]/OS_DATA (io), 17 DO[18]/OSS_SEL (io), 18 DO[17]/RFB (io), 19 DO[16] (io), 20 DO[15]/EQ3 (io), 21 DO[14]/EQ2 (io), 22 DO[13]/EQ1 (io), 23 DO[12]/EQ0 (io), 25 DO[11] (io), 26 DO[10]/OSC_SEL2 (io), 27 DO[9]/OSC_SEL1 (io), 28 DO[8]/OSC_SEL0 (io), 32 LOCK (out), 33 DO[7] (io), 34 DO[6]/SSC3 (io), 35 DO[5]/SSC2 (io), 36 DO[4]/SSC1 (io), 37 DO[3]/SSC0 (io), 39 DO[2] (io), 40 DO[1]/MAP_SEL[1] (io), 41 DO[0]/MAP_SEL[0] (io), 42 PASS/OP_LOW (out), 44 BISTEN (in), 47 RES (in), 49 RIN+ (in), 50 RIN- (in), 51 CMF (in), 52 ROUT+ (out), 53 ROUT- (out), 56 ID[x] (in), 59 PDB (in)
part B pins: 4 VDDSC (power), 13 VDDIO (power), 24 VDDIO (power), 29 VDDL (power), 38 VDDIO (power), 43 VDDR (power), 48 VDDIR (power), 54 VDDCMLO (power), 55 VDDR (power), 57 VDDPR (power), 58 VDDSC (power), 61 GND/DAP (power)
part C pins: 1 NC, 15 NC, 16 NC, 30 NC, 31 NC, 45 NC, 46 NC, 60 NC

## DS92LV2421SQ/NOPB
designator U?
10-75 MHz, 24-bit Channel-Link II Serializer, 48-pin LLP, 1000 Reel; PartNumber: DS92LV2421SQ/NOPB; Manufacturer: National Semiconductor; PackageTopMarking: NS*UZXYTTE#*LV2421SQ; PowerWise: N; CompType: Interface IC; High-Reliability: Y; DatasheetVersion: Jan-2011; PackageVersion: revB, May-2009; PackageReference: SQA48A; PackageDescription: LLP, Plastic, Quad, 7 x 7 x 0.8mm Body, 48 Lead, 0.5mm Pitch, No Pullback; RoHS: Y; PinCount: 48; Code_JEDEC: MO-220-WKKD-2; ComponentLink1Description: Manufacturer URL; ComponentLink1URL: http://www.national.com/; ComponentLink2Description: DS92LV2421 Datasheet; ComponentLink2URL: http://www.national.com/ds/DS/DS92LV2421.pdf; ComponentLink3Description: DS92LV2421 Web Page; ComponentLink3URL: http://www.national.com/pf/DS/DS92LV2421.html; ComponentLink4Description: SQA48A Package Page; ComponentLink4URL: http://www.national.com/packaging/folders/sqa48a.html
footprint SQA48A (QFN, 48-Leads, Body 7x7mm, Pitch 0.5mm, Thermal Pad 5.2x5.2mm, NSC Recommended)
pins: 1 DI[22] (in), 2 DI[23] (in), 3 CI2/HS (in), 4 CI3/VS (in), 5 CI1/DE (in), 6 ID[X] (in), 7 VDDL (power), 8 SCL (in), 9 SDA (io), 10 CLKIN (in), 11 RFB (in), 12 CONFIG[0] (in), 13 CONFIG[1] (in), 14 VDDP (power), 15 RES[0] (in), 16 RES[1] (in), 17 VDDHS (power), 18 RES[2] (in), 19 DOUT- (out), 20 DOUT+ (out), 21 PDB (in), 22 VDDTX (power), 23 DE-EMPH (in), 24 VODSEL (in), 25 DI[0] (in), 26 DI[1] (in), 27 DI[2] (in), 28 DI[3] (in), 29 DI[4] (in), 30 VDDIO (power), 31 BISTEN (in), 32 DI[5] (in), 33 DI[6] (in), 34 DI[7] (in), 35 DI[8] (in), 36 DI[9] (in), 37 DI[10] (in), 38 DI[11] (in), 39 DI[12] (in), 40 DI[13] (in), 41 DI[14] (in), 42 DI[15] (in), 43 DI[16] (in), 44 DI[17] (in), 45 DI[18] (in), 46 DI[19] (in), 47 DI[20] (in), 48 DI[21] (in), 49 DAP/GND (power)

## DS92LV2421SQE/NOPB
designator U?
10-75 MHz, 24-bit Channel-Link II Serializer, 48-pin LLP, 250 Reel; PartNumber: DS92LV2421SQE/NOPB; Manufacturer: National Semiconductor; PackageTopMarking: NS*UZXYTTE#*LV2421SQ; PowerWise: N; CompType: Interface IC; High-Reliability: Y; DatasheetVersion: Jan-2011; PackageVersion: revB, May-2009; PackageReference: SQA48A; PackageDescription: LLP, Plastic, Quad, 7 x 7 x 0.8mm Body, 48 Lead, 0.5mm Pitch, No Pullback; RoHS: Y; PinCount: 48; Code_JEDEC: MO-220-WKKD-2; ComponentLink1Description: Manufacturer URL; ComponentLink1URL: http://www.national.com/; ComponentLink2Description: DS92LV2421 Datasheet; ComponentLink2URL: http://www.national.com/ds/DS/DS92LV2421.pdf; ComponentLink3Description: DS92LV2421 Web Page; ComponentLink3URL: http://www.national.com/pf/DS/DS92LV2421.html; ComponentLink4Description: SQA48A Package Page; ComponentLink4URL: http://www.national.com/packaging/folders/sqa48a.html
footprint SQA48A (QFN, 48-Leads, Body 7x7mm, Pitch 0.5mm, Thermal Pad 5.2x5.2mm, NSC Recommended)
pins: 1 DI[22] (in), 2 DI[23] (in), 3 CI2/HS (in), 4 CI3/VS (in), 5 CI1/DE (in), 6 ID[X] (in), 7 VDDL (power), 8 SCL (in), 9 SDA (io), 10 CLKIN (in), 11 RFB (in), 12 CONFIG[0] (in), 13 CONFIG[1] (in), 14 VDDP (power), 15 RES[0] (in), 16 RES[1] (in), 17 VDDHS (power), 18 RES[2] (in), 19 DOUT- (out), 20 DOUT+ (out), 21 PDB (in), 22 VDDTX (power), 23 DE-EMPH (in), 24 VODSEL (in), 25 DI[0] (in), 26 DI[1] (in), 27 DI[2] (in), 28 DI[3] (in), 29 DI[4] (in), 30 VDDIO (power), 31 BISTEN (in), 32 DI[5] (in), 33 DI[6] (in), 34 DI[7] (in), 35 DI[8] (in), 36 DI[9] (in), 37 DI[10] (in), 38 DI[11] (in), 39 DI[12] (in), 40 DI[13] (in), 41 DI[14] (in), 42 DI[15] (in), 43 DI[16] (in), 44 DI[17] (in), 45 DI[18] (in), 46 DI[19] (in), 47 DI[20] (in), 48 DI[21] (in), 49 DAP/GND (power)

## DS92LV2421SQX/NOPB
designator U?
10-75 MHz, 24-bit Channel-Link II Serializer, 48-pin LLP, 2500 Reel; PartNumber: DS92LV2421SQX/NOPB; Manufacturer: National Semiconductor; PackageTopMarking: NS*UZXYTTE#*LV2421SQ; PowerWise: N; CompType: Interface IC; High-Reliability: Y; DatasheetVersion: Jan-2011; PackageVersion: revB, May-2009; PackageReference: SQA48A; PackageDescription: LLP, Plastic, Quad, 7 x 7 x 0.8mm Body, 48 Lead, 0.5mm Pitch, No Pullback; RoHS: Y; PinCount: 48; Code_JEDEC: MO-220-WKKD-2; ComponentLink1Description: Manufacturer URL; ComponentLink1URL: http://www.national.com/; ComponentLink2Description: DS92LV2421 Datasheet; ComponentLink2URL: http://www.national.com/ds/DS/DS92LV2421.pdf; ComponentLink3Description: DS92LV2421 Web Page; ComponentLink3URL: http://www.national.com/pf/DS/DS92LV2421.html; ComponentLink4Description: SQA48A Package Page; ComponentLink4URL: http://www.national.com/packaging/folders/sqa48a.html
footprint SQA48A (QFN, 48-Leads, Body 7x7mm, Pitch 0.5mm, Thermal Pad 5.2x5.2mm, NSC Recommended)
pins: 1 DI[22] (in), 2 DI[23] (in), 3 CI2/HS (in), 4 CI3/VS (in), 5 CI1/DE (in), 6 ID[X] (in), 7 VDDL (power), 8 SCL (in), 9 SDA (io), 10 CLKIN (in), 11 RFB (in), 12 CONFIG[0] (in), 13 CONFIG[1] (in), 14 VDDP (power), 15 RES[0] (in), 16 RES[1] (in), 17 VDDHS (power), 18 RES[2] (in), 19 DOUT- (out), 20 DOUT+ (out), 21 PDB (in), 22 VDDTX (power), 23 DE-EMPH (in), 24 VODSEL (in), 25 DI[0] (in), 26 DI[1] (in), 27 DI[2] (in), 28 DI[3] (in), 29 DI[4] (in), 30 VDDIO (power), 31 BISTEN (in), 32 DI[5] (in), 33 DI[6] (in), 34 DI[7] (in), 35 DI[8] (in), 36 DI[9] (in), 37 DI[10] (in), 38 DI[11] (in), 39 DI[12] (in), 40 DI[13] (in), 41 DI[14] (in), 42 DI[15] (in), 43 DI[16] (in), 44 DI[17] (in), 45 DI[18] (in), 46 DI[19] (in), 47 DI[20] (in), 48 DI[21] (in), 49 DAP/GND (power)

## DS92LV2422SQ/NOPB
designator U?
10-75 MHz, 24-bit Channel-Link II Deserializer, 60-pin LLP, 1000 Reel; PartNumber: DS92LV2422SQ/NOPB; Manufacturer: National Semiconductor; PackageTopMarking: NS*UZXYTTE#*LV2422SQ; PowerWise: N; CompType: Interface IC; High-Reliability: Y; DatasheetVersion: Jan-2011; PackageVersion: revB, Jun-2009; PackageReference: SQA60B; PackageDescription: LLP, Quad, 9 x 9 x 0.8mm Body, 60 Lead, 0.5 mm Pitch, No Pullback, 6.3 x 6.3 mm Exposed Pad; RoHS: Y; PinCount: 60; ComponentLink1Description: Manufacturer URL; ComponentLink1URL: http://www.national.com/; ComponentLink2Description: DS92LV2422 Datasheet; ComponentLink2URL: http://www.national.com/ds/DS/DS92LV2422.pdf; ComponentLink3Description: DS92LV2422 Web Page; ComponentLink3URL: http://www.national.com/pf/DS/DS92LV2422.html; ComponentLink4Description: SQA60B Package Page; ComponentLink4URL: http://www.national.com/packaging/folders/sqa60b.html
footprint SQA60B (QFN, 60-Leads, Body 9x9mm, Pitch 0.5mm, Thermal Pad 6.3x6.3mm, NSC Recommended)
part A pins: 2 SDA (io), 3 SCL (in), 5 CLKOUT (out), 6 CO1 (out), 7 CO3 (out), 8 CO2 (out), 9 DO[23]/CONFIG[0] (io), 10 DO[22]/CONFIG[1] (io), 11 DO[21]/OS_CLKOUT (io), 12 DO[20]/LF_MODE (io), 14 DO[19]/OS_DATA (io), 17 DO[18]/OSS_SEL (io), 18 DO[17]/RFB (io), 19 DO[16] (io), 20 DO[15]/EQ3 (io), 21 DO[14]/EQ2 (io), 22 DO[13]/EQ1 (io), 23 DO[12]/EQ0 (io), 25 DO[11] (io), 26 DO[10]/OSC_SEL2 (io), 27 DO[9]/OSC_SEL1 (io), 28 DO[8]/OSC_SEL0 (io), 32 LOCK (out), 33 DO[7] (io), 34 DO[6]/SSC3 (io), 35 DO[5]/SSC2 (io), 36 DO[4]/SSC1 (io), 37 DO[3]/SSC0 (io), 39 DO[2] (io), 40 DO[1]/MAP_SEL[1] (io), 41 DO[0]/MAP_SEL[0] (io), 42 PASS/OP_LOW (out), 44 BISTEN (in), 47 RES (in), 49 RIN+ (in), 50 RIN- (in), 51 CMF (in), 52 ROUT+ (out), 53 ROUT- (out), 56 ID[x] (in), 59 PDB (in)
part B pins: 4 VDDSC (power), 13 VDDIO (power), 24 VDDIO (power), 29 VDDL (power), 38 VDDIO (power), 43 VDDR (power), 48 VDDIR (power), 54 VDDCMLO (power), 55 VDDR (power), 57 VDDPR (power), 58 VDDSC (power), 61 GND/DAP (power)
part C pins: 1 NC, 15 NC, 16 NC, 30 NC, 31 NC, 45 NC, 46 NC, 60 NC

## DS92LV2422SQE/NOPB
designator U?
10-75 MHz, 24-bit Channel-Link II Deserializer, 60-pin LLP, 250 Reel; PartNumber: DS92LV2422SQE/NOPB; Manufacturer: National Semiconductor; PackageTopMarking: NS*UZXYTTE#*LV2422SQ; PowerWise: N; CompType: Interface IC; High-Reliability: Y; DatasheetVersion: Jan-2011; PackageVersion: revB, Jun-2009; PackageReference: SQA60B; PackageDescription: LLP, Quad, 9 x 9 x 0.8mm Body, 60 Lead, 0.5 mm Pitch, No Pullback, 6.3 x 6.3 mm Exposed Pad; RoHS: Y; PinCount: 60; ComponentLink1Description: Manufacturer URL; ComponentLink1URL: http://www.national.com/; ComponentLink2Description: DS92LV2422 Datasheet; ComponentLink2URL: http://www.national.com/ds/DS/DS92LV2422.pdf; ComponentLink3Description: DS92LV2422 Web Page; ComponentLink3URL: http://www.national.com/pf/DS/DS92LV2422.html; ComponentLink4Description: SQA60B Package Page; ComponentLink4URL: http://www.national.com/packaging/folders/sqa60b.html
footprint SQA60B (QFN, 60-Leads, Body 9x9mm, Pitch 0.5mm, Thermal Pad 6.3x6.3mm, NSC Recommended)
part A pins: 2 SDA (io), 3 SCL (in), 5 CLKOUT (out), 6 CO1 (out), 7 CO3 (out), 8 CO2 (out), 9 DO[23]/CONFIG[0] (io), 10 DO[22]/CONFIG[1] (io), 11 DO[21]/OS_CLKOUT (io), 12 DO[20]/LF_MODE (io), 14 DO[19]/OS_DATA (io), 17 DO[18]/OSS_SEL (io), 18 DO[17]/RFB (io), 19 DO[16] (io), 20 DO[15]/EQ3 (io), 21 DO[14]/EQ2 (io), 22 DO[13]/EQ1 (io), 23 DO[12]/EQ0 (io), 25 DO[11] (io), 26 DO[10]/OSC_SEL2 (io), 27 DO[9]/OSC_SEL1 (io), 28 DO[8]/OSC_SEL0 (io), 32 LOCK (out), 33 DO[7] (io), 34 DO[6]/SSC3 (io), 35 DO[5]/SSC2 (io), 36 DO[4]/SSC1 (io), 37 DO[3]/SSC0 (io), 39 DO[2] (io), 40 DO[1]/MAP_SEL[1] (io), 41 DO[0]/MAP_SEL[0] (io), 42 PASS/OP_LOW (out), 44 BISTEN (in), 47 RES (in), 49 RIN+ (in), 50 RIN- (in), 51 CMF (in), 52 ROUT+ (out), 53 ROUT- (out), 56 ID[x] (in), 59 PDB (in)
part B pins: 4 VDDSC (power), 13 VDDIO (power), 24 VDDIO (power), 29 VDDL (power), 38 VDDIO (power), 43 VDDR (power), 48 VDDIR (power), 54 VDDCMLO (power), 55 VDDR (power), 57 VDDPR (power), 58 VDDSC (power), 61 GND/DAP (power)
part C pins: 1 NC, 15 NC, 16 NC, 30 NC, 31 NC, 45 NC, 46 NC, 60 NC

## DS92LV2422SQX/NOPB
designator U?
10-75 MHz, 24-bit Channel-Link II Deserializer, 60-pin LLP, 2000 Reel; PartNumber: DS92LV2422SQX/NOPB; Manufacturer: National Semiconductor; PackageTopMarking: NS*UZXYTTE#*LV2422SQ; PowerWise: N; CompType: Interface IC; High-Reliability: Y; DatasheetVersion: Jan-2011; PackageVersion: revB, Jun-2009; PackageReference: SQA60B; PackageDescription: LLP, Quad, 9 x 9 x 0.8mm Body, 60 Lead, 0.5 mm Pitch, No Pullback, 6.3 x 6.3 mm Exposed Pad; RoHS: Y; PinCount: 60; ComponentLink1Description: Manufacturer URL; ComponentLink1URL: http://www.national.com/; ComponentLink2Description: DS92LV2422 Datasheet; ComponentLink2URL: http://www.national.com/ds/DS/DS92LV2422.pdf; ComponentLink3Description: DS92LV2422 Web Page; ComponentLink3URL: http://www.national.com/pf/DS/DS92LV2422.html; ComponentLink4Description: SQA60B Package Page; ComponentLink4URL: http://www.national.com/packaging/folders/sqa60b.html
footprint SQA60B (QFN, 60-Leads, Body 9x9mm, Pitch 0.5mm, Thermal Pad 6.3x6.3mm, NSC Recommended)
part A pins: 2 SDA (io), 3 SCL (in), 5 CLKOUT (out), 6 CO1 (out), 7 CO3 (out), 8 CO2 (out), 9 DO[23]/CONFIG[0] (io), 10 DO[22]/CONFIG[1] (io), 11 DO[21]/OS_CLKOUT (io), 12 DO[20]/LF_MODE (io), 14 DO[19]/OS_DATA (io), 17 DO[18]/OSS_SEL (io), 18 DO[17]/RFB (io), 19 DO[16] (io), 20 DO[15]/EQ3 (io), 21 DO[14]/EQ2 (io), 22 DO[13]/EQ1 (io), 23 DO[12]/EQ0 (io), 25 DO[11] (io), 26 DO[10]/OSC_SEL2 (io), 27 DO[9]/OSC_SEL1 (io), 28 DO[8]/OSC_SEL0 (io), 32 LOCK (out), 33 DO[7] (io), 34 DO[6]/SSC3 (io), 35 DO[5]/SSC2 (io), 36 DO[4]/SSC1 (io), 37 DO[3]/SSC0 (io), 39 DO[2] (io), 40 DO[1]/MAP_SEL[1] (io), 41 DO[0]/MAP_SEL[0] (io), 42 PASS/OP_LOW (out), 44 BISTEN (in), 47 RES (in), 49 RIN+ (in), 50 RIN- (in), 51 CMF (in), 52 ROUT+ (out), 53 ROUT- (out), 56 ID[x] (in), 59 PDB (in)
part B pins: 4 VDDSC (power), 13 VDDIO (power), 24 VDDIO (power), 29 VDDL (power), 38 VDDIO (power), 43 VDDR (power), 48 VDDIR (power), 54 VDDCMLO (power), 55 VDDR (power), 57 VDDPR (power), 58 VDDSC (power), 61 GND/DAP (power)
part C pins: 1 NC, 15 NC, 16 NC, 30 NC, 31 NC, 45 NC, 46 NC, 60 NC

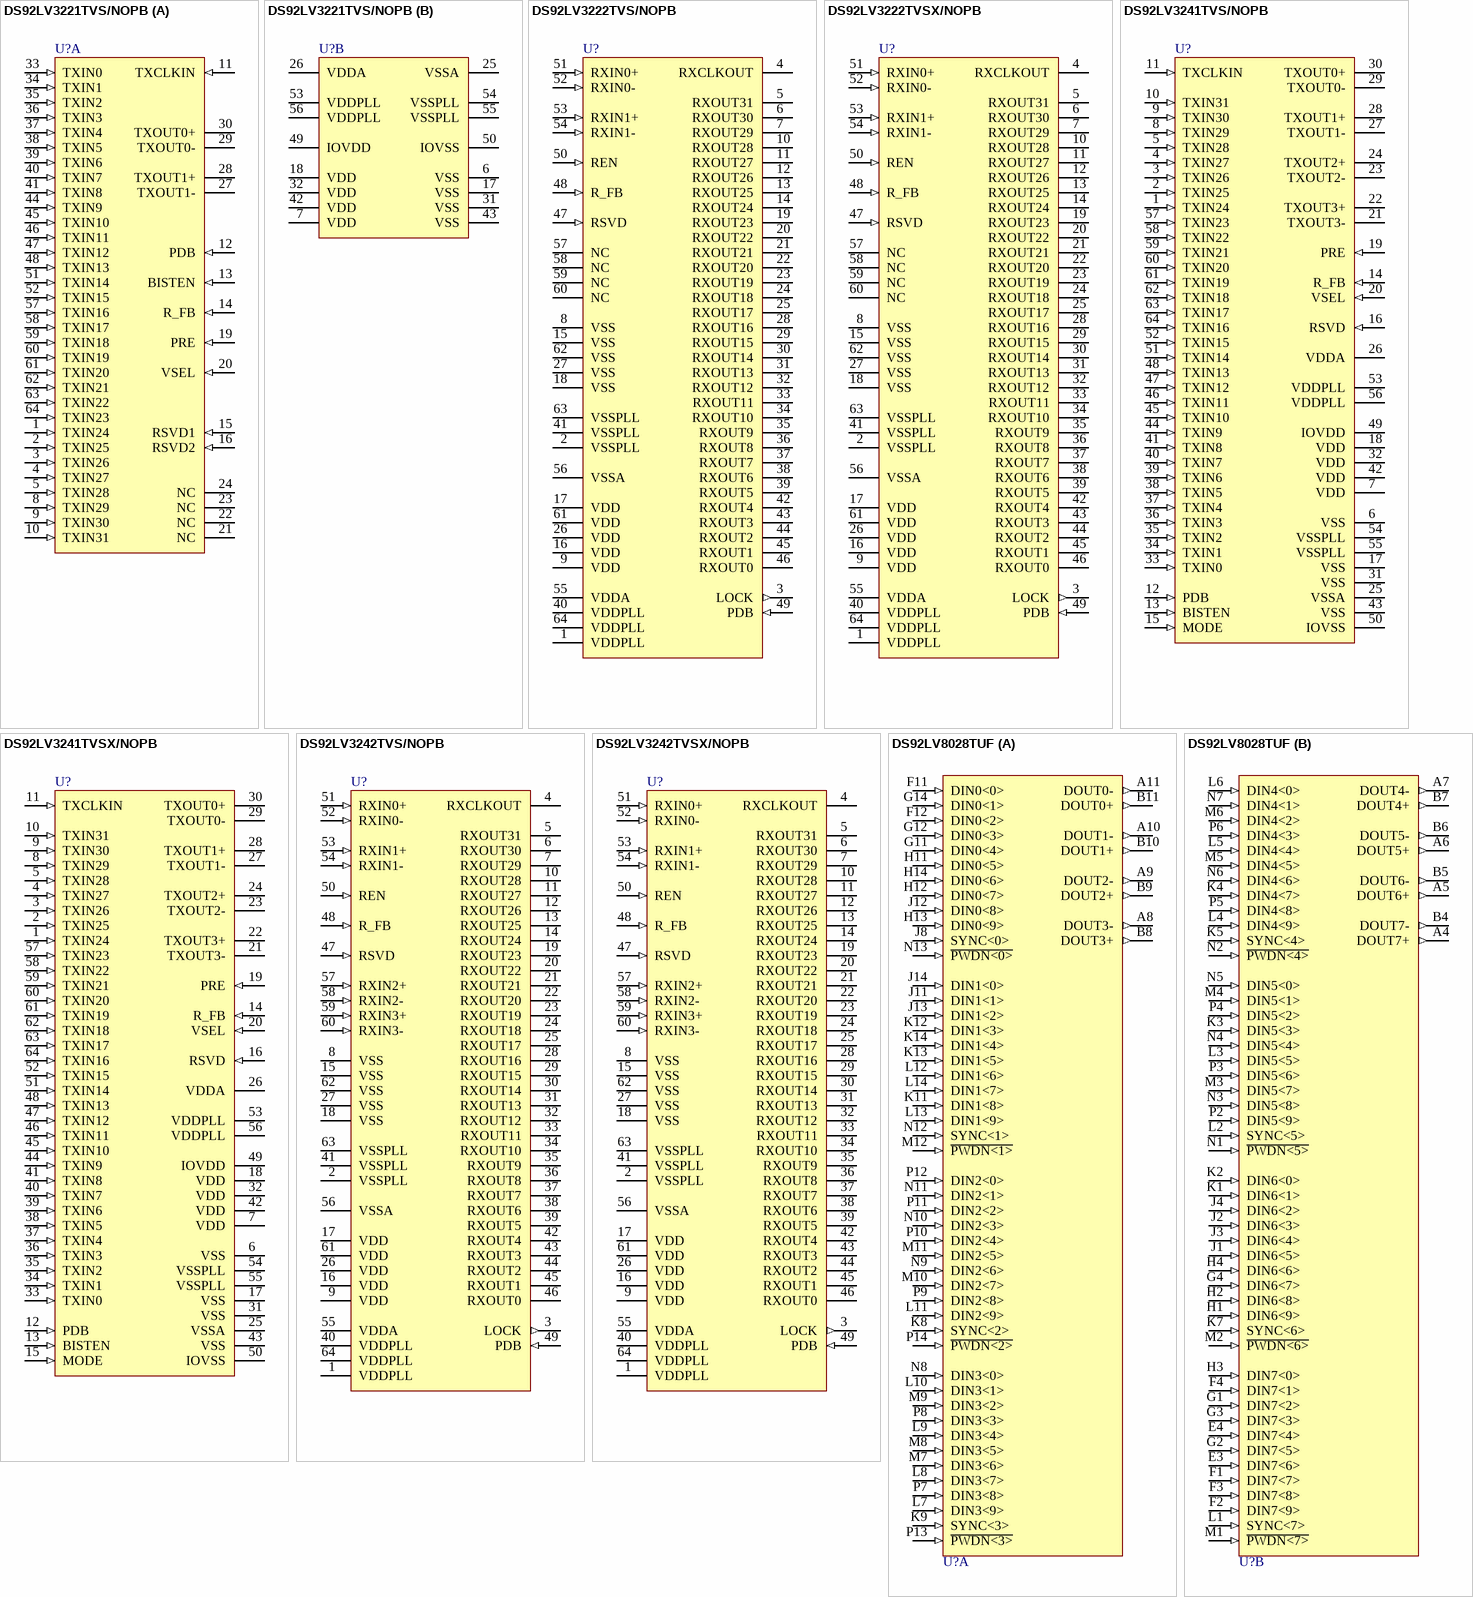
[diagram p73: symbols DS92LV3221TVS/NOPB to DS92LV8028TUF]

## DS92LV3221TVS/NOPB
designator U?
20-50 MHz 32-Bit Channel Link II Serializer, 64 pin TQFP; PartNumber: DS92LV3221TVS/NOPB; Manufacturer: National Semiconductor; PackageTopMarking: NSUZXYYTTE#*DS92LV3221*TVS; PowerWise: N; CompType: Interface IC; High-Reliability: Y; DatasheetVersion: Jan-2010; PackageVersion: revB, Jul-2003; PackageReference: VEC64A; PackageDescription: TQFP, Jedec Metric, 10 x 10 x 1.0mm, 64 Lead, 0.5mm Pitch; RoHS: Y; PinCount: 64; Code_JEDEC: MS-026-ACD; ComponentLink1Description: Manufacturer URL; ComponentLink1URL: http://www.national.com/; ComponentLink2Description: DS92LV3221 Datasheet; ComponentLink2URL: http://www.national.com/ds/DS/DS92LV3221.pdf; ComponentLink3Description: DS92LV3221 Web Page; ComponentLink3URL: http://www.national.com/pf/DS/DS92LV3221.html; ComponentLink4Description: VEC64A Package Page; ComponentLink4URL: http://www.national.com/packaging/folders/vec64a.html
footprint VEC64A_N (Thin QFP, 64-Leads, Body 10x10mm, Pitch 0.5mm, IPC Medium Density)
footprint VEC64A_L (Thin QFP, 64-Leads, Body 10x10mm, Pitch 0.5mm, IPC High Density)
footprint VEC64A_M (Thin QFP, 64-Leads, Body 10x10mm, Pitch 0.5mm, IPC Low Density)
part A pins: 1 TXIN24 (in), 2 TXIN25 (in), 3 TXIN26 (in), 4 TXIN27 (in), 5 TXIN28 (in), 8 TXIN29 (in), 9 TXIN30 (in), 10 TXIN31 (in), 11 TXCLKIN (in), 12 PDB (in), 13 BISTEN (in), 14 R_FB (in), 15 RSVD1 (in), 16 RSVD2 (in), 19 PRE (in), 20 VSEL (in), 21 NC, 22 NC, 23 NC, 24 NC, 27 TXOUT1- (hiz), 28 TXOUT1+ (hiz), 29 TXOUT0- (hiz), 30 TXOUT0+ (hiz), 33 TXIN0 (in), 34 TXIN1 (in), 35 TXIN2 (in), 36 TXIN3 (in), 37 TXIN4 (in), 38 TXIN5 (in), 39 TXIN6 (in), 40 TXIN7 (in), 41 TXIN8 (in), 44 TXIN9 (in), 45 TXIN10 (in), 46 TXIN11 (in), 47 TXIN12 (in), 48 TXIN13 (in), 51 TXIN14 (in), 52 TXIN15 (in), 57 TXIN16 (in), 58 TXIN17 (in), 59 TXIN18 (in), 60 TXIN19 (in), 61 TXIN20 (in), 62 TXIN21 (in), 63 TXIN22 (in), 64 TXIN23 (in)
part B pins: 6 VSS (power), 7 VDD (power), 17 VSS (power), 18 VDD (power), 25 VSSA (power), 26 VDDA (power), 31 VSS (power), 32 VDD (power), 42 VDD (power), 43 VSS (power), 49 IOVDD (power), 50 IOVSS (power), 53 VDDPLL (power), 54 VSSPLL (power), 55 VSSPLL (power), 56 VDDPLL (power)